# Altium footprint library ser_pcb_lib.PcbLib: 12 footprints
Each footprint in its own frame and in the unit in brackets; x right, y up, seen from the top. Pads: shape width x height; smd on the part's side, far side on the other; paste and mask are expansions set on the pad; w line width, h text height; cw(c..) or ccw(c..) is an arc to the next point about the centre after c.
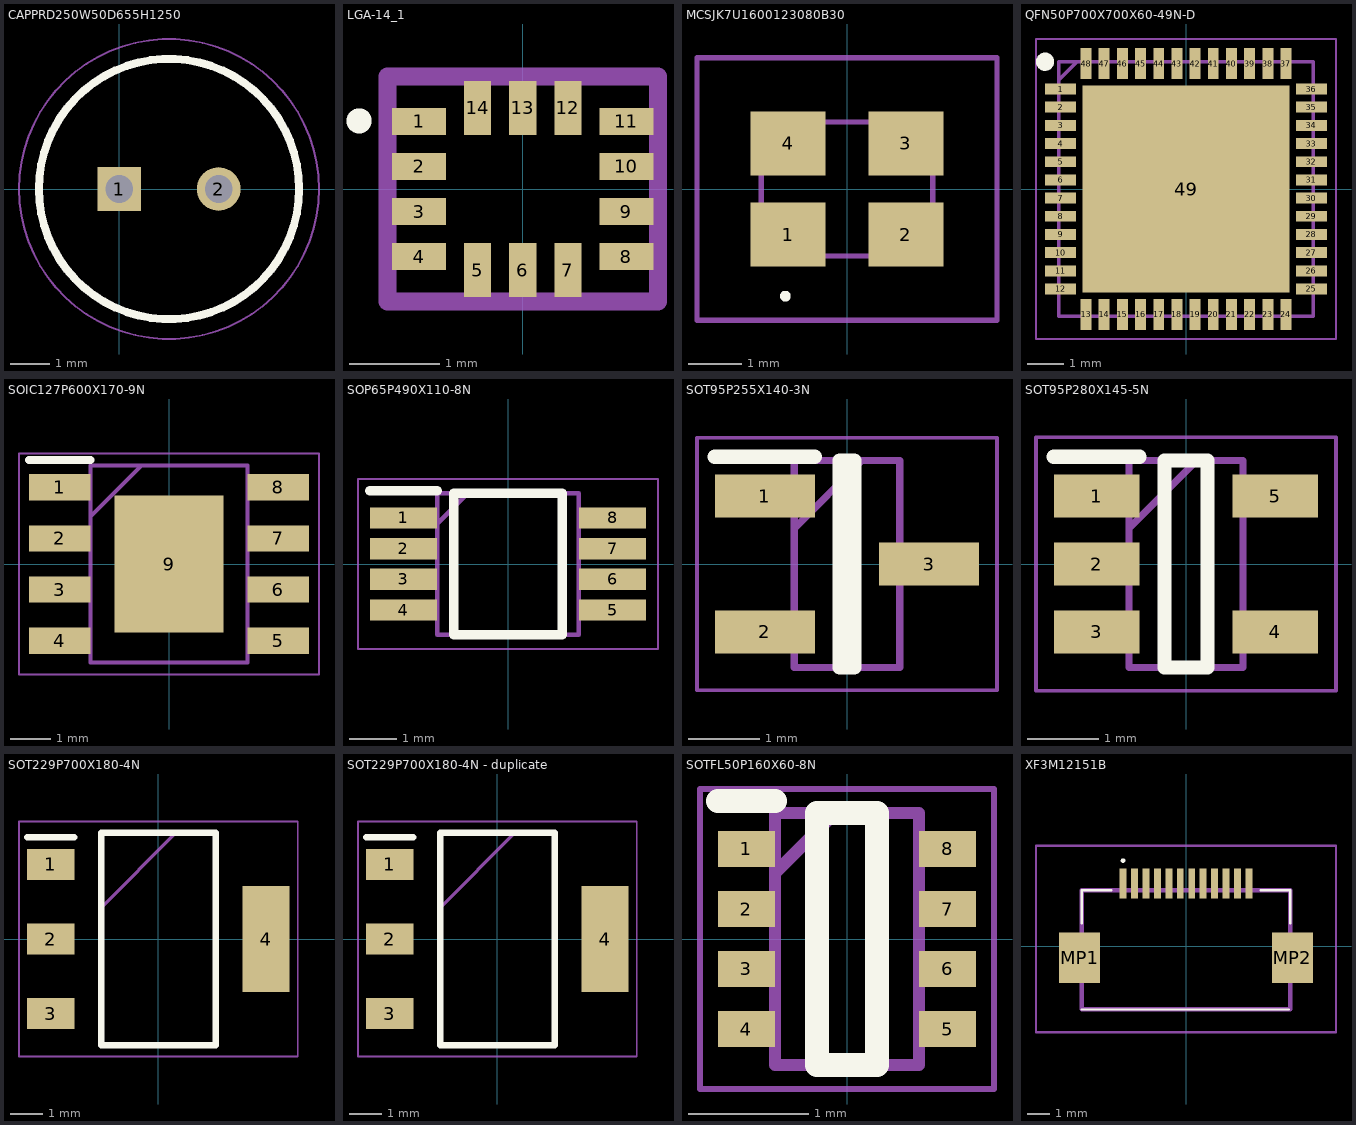
[diagram p0: the footprints below, top view; thin cyan lines are the x and y axes]

## CAPPRD250W50D655H1250 [mm]
pads (2):
  rect 1.1x1.1 hole 0.7: 1(0,0)
  round 1.1 hole 0.7: 2(2.5,0)
Top Overlay:
  circle w0.2: c1.25,0 r3.275
Mechanical 13:
  circle w0.1: c1.25,0 r3.275
Mechanical 15:
  circle w0.05: c1.25,0 r3.775
3D body "UVY1V101MED1TD.stp": height 12.5, standoff -10, extent -2.15,-3.4 4.65,3.4

## LGA-14_1 [mm]
pads (14):
  rect 0.6x0.3 smd: 1(-1.15,0.75) 2(-1.15,0.25) 3(-1.15,-0.25) 4(-1.15,-0.75) 8(1.15,-0.75) 9(1.15,-0.25) 10(1.15,0.25) 11(1.15,0.75)
  rect 0.3x0.6 smd: 5(-0.5,-0.9) 6(0,-0.9) 7(0.5,-0.9) 12(0.5,0.9) 13(0,0.9) 14(-0.5,0.9)
Top Overlay:
  circle w0.254: c-1.815,0.756 r0.012
Mechanical 13:
  lines w0.2: -1.5,-1.25 -1.5,1.25 1.5,1.25 1.5,-1.25 -1.5,-1.25
3D body "LSM6DSOXTR.stp": height 0.86, standoff 0, extent -1.62,-1.25 1.38,1.25

## MCSJK7U1600123080B30 [mm]
pads (4):
  rect 1.4x1.2 smd: 1(-1.1,-0.85) 2(1.1,-0.85) 3(1.1,0.85) 4(-1.1,0.85)
Top Overlay:
  lines w0.1: -1.2,-2 ccw(c-1.15,-2) -1.1,-2 ccw(c-1.15,-2) -1.2,-2
Mechanical 13:
  lines w0.1: -1.6,-1.25 1.6,-1.25 1.6,1.25 -1.6,1.25 -1.6,-1.25
Mechanical 15:
  lines w0.1: -2.8,-2.45 2.8,-2.45 2.8,2.45 -2.8,2.45 -2.8,-2.45
3D body "MCSJK-7U-16.00-12-30-80-B-30.stp": height 0.9, standoff 0, extent -1.68,-1.33 1.68,1.33

## QFN50P700X700X60-49N-D [mm]
pads (49):
  rect 0.85x0.3 smd: 1(-3.45,2.75) 2(-3.45,2.25) 3(-3.45,1.75) 4(-3.45,1.25) 5(-3.45,0.75) 6(-3.45,0.25) 7(-3.45,-0.25) 8(-3.45,-0.75) 9(-3.45,-1.25) 10(-3.45,-1.75) 11(-3.45,-2.25) 12(-3.45,-2.75) 25(3.45,-2.75) 26(3.45,-2.25) 27(3.45,-1.75) 28(3.45,-1.25) 29(3.45,-0.75) 30(3.45,-0.25) 31(3.45,0.25) 32(3.45,0.75) 33(3.45,1.25) 34(3.45,1.75) 35(3.45,2.25) 36(3.45,2.75)
  rect 0.3x0.85 smd: 13(-2.75,-3.45) 14(-2.25,-3.45) 15(-1.75,-3.45) 16(-1.25,-3.45) 17(-0.75,-3.45) 18(-0.25,-3.45) 19(0.25,-3.45) 20(0.75,-3.45) 21(1.25,-3.45) 22(1.75,-3.45) 23(2.25,-3.45) 24(2.75,-3.45) 37(2.75,3.45) 38(2.25,3.45) 39(1.75,3.45) 40(1.25,3.45) 41(0.75,3.45) 42(0.25,3.45) 43(-0.25,3.45) 44(-0.75,3.45) 45(-1.25,3.45) 46(-1.75,3.45) 47(-2.25,3.45) 48(-2.75,3.45)
  rect 5.7x5.7 smd: 49(0,0)
Top Overlay:
  circle w0.25: c-3.875,3.5 r0.125
Mechanical 13:
  lines w0.1: -3.5,3 -3,3.5 ; -3.5,-3.5 3.5,-3.5 3.5,3.5 -3.5,3.5 -3.5,-3.5
Mechanical 15:
  lines w0.05: -4.125,-4.125 4.125,-4.125 4.125,4.125 -4.125,4.125 -4.125,-4.125
3D body "STM32G061C6U6.stp": height 0.61, standoff 0, extent -3.556,-3.556 3.556,3.556

## SOIC127P600X170-9N [mm]
pads (9):
  rect 1.525x0.65 smd: 1(-2.712,1.905) 2(-2.712,0.635) 3(-2.712,-0.635) 4(-2.712,-1.905) 5(2.712,-1.905) 6(2.712,-0.635) 7(2.712,0.635) 8(2.712,1.905)
  rect 2.71x3.4 smd: 9(0,0)
Top Overlay:
  lines w0.2: -3.475,2.58 -1.95,2.58
Mechanical 13:
  lines w0.1: -1.95,1.18 -0.68,2.45 ; -1.95,-2.45 1.95,-2.45 1.95,2.45 -1.95,2.45 -1.95,-2.45
Mechanical 15:
  lines w0.05: -3.725,-2.75 3.725,-2.75 3.725,2.75 -3.725,2.75 -3.725,-2.75
3D body "DRV8251DDAR.stp": height 1.7, standoff 0, extent -3,-2.45 3,2.45

## SOP65P490X110-8N [mm]
pads (8):
  rect 1.425x0.45 smd: 1(-2.212,0.975) 2(-2.212,0.325) 3(-2.212,-0.325) 4(-2.212,-0.975) 5(2.212,-0.975) 6(2.212,-0.325) 7(2.212,0.325) 8(2.212,0.975)
Top Overlay:
  lines w0.2: -2.925,1.55 -1.5,1.55 ; -1.15,-1.5 -1.15,1.5 1.15,1.5 1.15,-1.5 -1.15,-1.5
Mechanical 13:
  lines w0.1: -1.5,0.85 -0.85,1.5 ; -1.5,-1.5 -1.5,1.5 1.5,1.5 1.5,-1.5 -1.5,-1.5
Mechanical 15:
  lines w0.05: -3.175,-1.8 -3.175,1.8 3.175,1.8 3.175,-1.8 -3.175,-1.8
3D body "MAX1614EUA+.stp": height 1.1, standoff 0, extent -2.452,-1.5 2.452,1.5

## SOT95P255X140-3N [mm]
pads (3):
  rect 1.4x0.6 smd: 1(-1.15,0.95) 2(-1.15,-0.95) 3(1.15,0)
Top Overlay:
  lines w0.2: -1.85,1.5 -0.45,1.5 ; -0.1,-1.448 0.1,-1.448 0.1,1.448 -0.1,1.448 -0.1,-1.448
Mechanical 13:
  lines w0.1: -0.738,0.498 0.212,1.448 ; -0.738,-1.448 0.738,-1.448 0.738,1.448 -0.738,1.448 -0.738,-1.448
Mechanical 15:
  lines w0.05: -2.1,-1.77 2.1,-1.77 2.1,1.77 -2.1,1.77 -2.1,-1.77
3D body "P0102AL_5AA4.stp": height 1.4, standoff 0, extent -1.275,-1.448 1.275,1.448

## SOT95P280X145-5N [mm]
pads (5):
  rect 1.2x0.6 smd: 1(-1.25,0.95) 2(-1.25,0) 3(-1.25,-0.95) 4(1.25,-0.95) 5(1.25,0.95)
Top Overlay:
  lines w0.2: -1.85,1.5 -0.65,1.5 ; -0.3,-1.45 -0.3,1.45 0.3,1.45 0.3,-1.45 -0.3,-1.45
Mechanical 13:
  lines w0.1: -0.8,0.5 0.15,1.45 ; -0.8,-1.45 -0.8,1.45 0.8,1.45 0.8,-1.45 -0.8,-1.45
Mechanical 15:
  lines w0.05: -2.1,-1.775 -2.1,1.775 2.1,1.775 2.1,-1.775 -2.1,-1.775
3D body "TPS7A2433DBVR.stp": height 1.2, standoff 0, extent -1.4,-1.45 1.4,1.45

## SOT229P700X180-4N [mm]
pads (4):
  rect 1.45x0.95 smd: 1(-3.3,2.29) 2(-3.3,0) 3(-3.3,-2.29)
  rect 1.45x3.25 smd: 4(3.3,0)
Top Overlay:
  lines w0.2: -4.025,3.115 -2.575,3.115 ; -1.752,-3.252 1.752,-3.252 1.752,3.252 -1.752,3.252 -1.752,-3.252
Mechanical 13:
  lines w0.1: -1.752,0.962 0.538,3.252 ; -1.752,-3.252 1.752,-3.252 1.752,3.252 -1.752,3.252 -1.752,-3.252
Mechanical 15:
  lines w0.05: -4.275,-3.605 4.275,-3.605 4.275,3.605 -4.275,3.605 -4.275,-3.605
3D body "AMS1117-3.3.stp": height 1.8, standoff 0, extent -3.355,-3.15 3.355,3.15

## SOT229P700X180-4N - duplicate [mm]
pads (4):
  rect 1.45x0.95 smd: 1(-3.3,2.29) 2(-3.3,0) 3(-3.3,-2.29)
  rect 1.45x3.25 smd: 4(3.3,0)
Top Overlay:
  lines w0.2: -4.025,3.115 -2.575,3.115 ; -1.752,-3.252 1.752,-3.252 1.752,3.252 -1.752,3.252 -1.752,-3.252
Mechanical 13:
  lines w0.1: -1.752,0.962 0.538,3.252 ; -1.752,-3.252 1.752,-3.252 1.752,3.252 -1.752,3.252 -1.752,-3.252
Mechanical 15:
  lines w0.05: -4.275,-3.605 4.275,-3.605 4.275,3.605 -4.275,3.605 -4.275,-3.605
3D body "AMS1117-3.3.stp": height 1.8, standoff 0, extent -3.355,-3.15 3.355,3.15

## SOTFL50P160X60-8N [mm]
pads (8):
  rect 0.475x0.3 smd: 1(-0.838,0.75) 2(-0.838,0.25) 3(-0.838,-0.25) 4(-0.838,-0.75) 5(0.838,-0.75) 6(0.838,-0.25) 7(0.838,0.25) 8(0.838,0.75)
Top Overlay:
  lines w0.2: -1.075,1.15 -0.6,1.15 ; -0.25,-1.05 0.25,-1.05 0.25,1.05 -0.25,1.05 -0.25,-1.05
Mechanical 13:
  lines w0.1: -0.6,0.55 -0.1,1.05 ; -0.6,-1.05 0.6,-1.05 0.6,1.05 -0.6,1.05 -0.6,-1.05
Mechanical 15:
  lines w0.05: -1.225,-1.25 1.225,-1.25 1.225,1.25 -1.225,1.25 -1.225,-1.25
3D body "TPS62933DRLR.stp": height 0.6, standoff 0, extent -0.8,-1.02 0.8,1.08

## XF3M12151B [mm]
pads (14):
  rect 0.3x1.3 smd: 1(-2.75,2.75) 2(-2.25,2.75) 3(-1.75,2.75) 4(-1.25,2.75) 5(-0.75,2.75) 6(-0.25,2.75) 7(0.25,2.75) 8(0.75,2.75) 9(1.25,2.75) 10(1.75,2.75) 11(2.25,2.75) 12(2.75,2.75)
  rect 1.8x2.2 smd: MP1(-4.65,-0.5) MP2(4.65,-0.5)
Top Overlay:
  lines w0.1: -4.55,2.45 -3.25,2.45 -4.55,2.45 ; -4.55,2.45 -4.55,1 -4.55,2.45 ; 4.55,2.45 3.25,2.45 4.55,2.45 ; 4.55,2.45 4.55,1 4.55,2.45 ; -4.55,-2.75 4.5,-2.75 -4.55,-2.75 ; -2.75,3.7 ccw(c-2.75,3.75) -2.75,3.8 ccw(c-2.75,3.75) -2.75,3.7
Mechanical 13:
  lines w0.2: -4.55,-2.75 4.55,-2.75 4.55,2.45 -4.55,2.45 -4.55,-2.75
Mechanical 15:
  lines w0.1: -6.55,-3.75 6.55,-3.75 6.55,4.4 -6.55,4.4 -6.55,-3.75
3D body "XF3M-1215-1B.stp": height 2, standoff 0, extent -5.05,-2.77 5.05,3.63